# Altium footprint library Inductor_SMD.PcbLib: 587 footprints (part 29 of 37)
Each footprint in its own frame and in the unit in brackets; x right, y up, seen from the top. Pads: shape width x height; smd on the part's side, far side on the other; paste and mask are expansions set on the pad; w line width, h text height; cw(c..) or ccw(c..) is an arc to the next point about the centre after c.
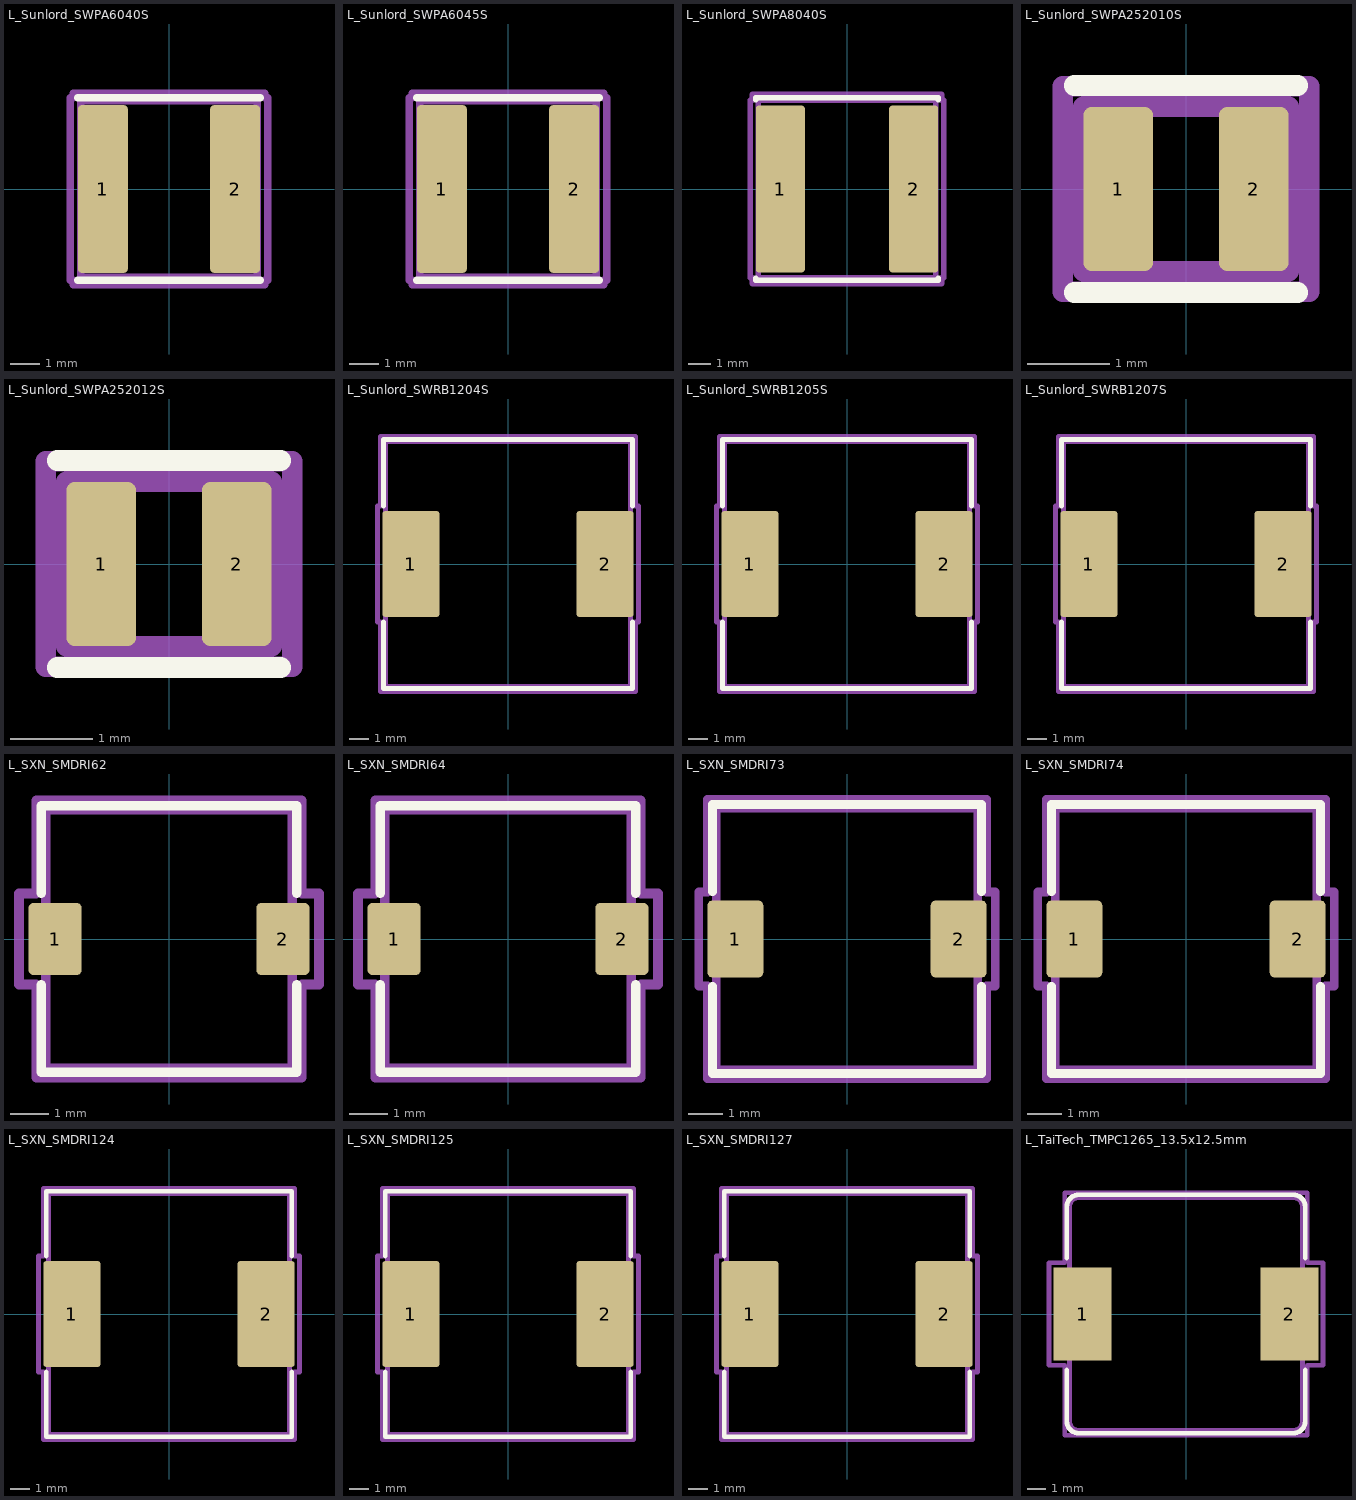
[diagram p28: the footprints below, top view; thin cyan lines are the x and y axes]

## L_Sunlord_SWPA6040S [mm] "L_Sunlord_SWPA6040S"
pads (2):
  rrect15% 1.7x5.7 smd: 1(-2.25,0) 2(2.25,0)
F.SilkS:
  lines w0.254: -3.11,-3.11 3.11,-3.11 ; -3.11,3.11 3.11,3.11
Top Assembly:
  lines w0.254: -3,-3 3,-3 3,3 -3,3 -3,-3
  text "'.Designator'" at -4.047,-0.84 h1
Top Courtyard:
  lines w0.254: -3.35,-3.1 -3.25,-3.1 -3.25,-3.25 3.25,-3.25 3.25,-3.1 3.35,-3.1 3.35,3.1 3.25,3.1 3.25,3.25 -3.25,3.25 -3.25,3.1 -3.35,3.1 -3.35,-3.1
Top Designator:
  text ".Designator" at -7.768,-0.508 h1.52
3D body "L_Sunlord_SWPA6040S.step": height 4, standoff 0, extent -3,-3 3,3

## L_Sunlord_SWPA6045S [mm] "L_Sunlord_SWPA6045S"
pads (2):
  rrect15% 1.7x5.7 smd: 1(-2.25,0) 2(2.25,0)
F.SilkS:
  lines w0.254: -3.11,-3.11 3.11,-3.11 ; -3.11,3.11 3.11,3.11
Top Assembly:
  lines w0.254: -3,-3 -3,3 3,3 3,-3 -3,-3
  text "'.Designator'" at -4.047,-0.84 h1
Top Courtyard:
  lines w0.254: -3.35,-3.1 -3.35,3.1 -3.25,3.1 -3.25,3.25 3.25,3.25 3.25,3.1 3.35,3.1 3.35,-3.1 3.25,-3.1 3.25,-3.25 -3.25,-3.25 -3.25,-3.1 -3.35,-3.1
Top Designator:
  text ".Designator" at -7.768,-0.508 h1.52
3D body "L_Sunlord_SWPA6045S.step": height 4.5, standoff 0, extent -3,-3 3,3

## L_Sunlord_SWPA8040S [mm] "L_Sunlord_SWPA8040S"
pads (2):
  rrect11% 2.2x7.5 smd: 1(-3,0) 2(3,0)
F.SilkS:
  lines w0.254: -4.11,-4.01 -4.11,-4.11 4.11,-4.11 4.11,-4.01 ; -4.11,4.01 -4.11,4.11 4.11,4.11 4.11,4.01
Top Assembly:
  lines w0.254: -4,-4 4,-4 4,4 -4,4 -4,-4
  text "'.Designator'" at -4.047,-0.84 h1
Top Courtyard:
  lines w0.254: -4.35,-4 -4.25,-4 -4.25,-4.25 4.25,-4.25 4.25,-4 4.35,-4 4.35,4 4.25,4 4.25,4.25 -4.25,4.25 -4.25,4 -4.35,4 -4.35,-4
Top Designator:
  text ".Designator" at -7.618,-0.508 h1.52
3D body "L_Sunlord_SWPA8040S.step": height 4.2, standoff 0, extent -4,-4 4,4

## L_Sunlord_SWPA252010S [mm] "L_Sunlord_SWPA252010S"
pads (2):
  rrect25% 0.85x2 smd: 1(-0.825,0) 2(0.825,0)
F.SilkS:
  lines w0.254: -1.36,-1.26 1.36,-1.26 ; -1.36,1.26 1.36,1.26
Top Assembly:
  lines w0.254: -1.25,-1 -1.25,1 1.25,1 1.25,-1 -1.25,-1
  text "'.Designator'" at -2.506,-0.518 h0.62
Top Courtyard:
  lines w0.254: -1.5,-1.25 -1.5,1.25 1.5,1.25 1.5,-1.25 -1.5,-1.25
Top Designator:
  text ".Designator" at -7.708,-0.508 h1.52
3D body "L_Sunlord_SWPA252010S.step": height 1, standoff 0, extent -1.25,-1 1.25,1

## L_Sunlord_SWPA252012S [mm] "L_Sunlord_SWPA252012S"
pads (2):
  rrect25% 0.85x2 smd: 1(-0.825,0) 2(0.825,0)
F.SilkS:
  lines w0.254: -1.36,-1.26 1.36,-1.26 ; -1.36,1.26 1.36,1.26
Top Assembly:
  lines w0.254: -1.25,-1 1.25,-1 1.25,1 -1.25,1 -1.25,-1
  text "'.Designator'" at -2.506,-0.518 h0.62
Top Courtyard:
  lines w0.254: -1.5,-1.25 1.5,-1.25 1.5,1.25 -1.5,1.25 -1.5,-1.25
Top Designator:
  text ".Designator" at -7.708,-0.508 h1.52
3D body "L_Sunlord_SWPA252012S.step": height 1.2, standoff 0, extent -1.25,-1 1.25,1

## L_Sunlord_SWRB1204S [mm] "L_Sunlord_SWRB1204S"
pads (2):
  rrect9% 2.9x5.4 smd: 1(-4.95,0) 2(4.95,0)
F.SilkS:
  lines w0.254: -6.36,-2.96 -6.36,-6.36 6.36,-6.36 6.36,-2.96 ; -6.36,2.96 -6.36,6.36 6.36,6.36 6.36,2.96
Top Assembly:
  lines w0.254: -6.25,-6.25 -6.25,6.25 6.25,6.25 6.25,-6.25 -6.25,-6.25
  text "'.Designator'" at -4.047,-0.84 h1
Top Courtyard:
  lines w0.254: -6.65,-2.95 -6.65,2.95 -6.5,2.95 -6.5,6.5 6.5,6.5 6.5,2.95 6.65,2.95 6.65,-2.95 6.5,-2.95 6.5,-6.5 -6.5,-6.5 -6.5,-2.95 -6.65,-2.95
Top Designator:
  text ".Designator" at -7.618,-0.508 h1.52
3D body "L_Sunlord_SWRB1204S.step": height 5, standoff 0, extent -6.25,-6.25 6.25,6.25

## L_Sunlord_SWRB1205S [mm] "L_Sunlord_SWRB1205S"
pads (2):
  rrect9% 2.9x5.4 smd: 1(-4.95,0) 2(4.95,0)
F.SilkS:
  lines w0.254: -6.36,-2.96 -6.36,-6.36 6.36,-6.36 6.36,-2.96 ; -6.36,2.96 -6.36,6.36 6.36,6.36 6.36,2.96
Top Assembly:
  lines w0.254: -6.25,-6.25 -6.25,6.25 6.25,6.25 6.25,-6.25 -6.25,-6.25
  text "'.Designator'" at -4.047,-0.84 h1
Top Courtyard:
  lines w0.254: -6.65,-2.95 -6.65,2.95 -6.5,2.95 -6.5,6.5 6.5,6.5 6.5,2.95 6.65,2.95 6.65,-2.95 6.5,-2.95 6.5,-6.5 -6.5,-6.5 -6.5,-2.95 -6.65,-2.95
Top Designator:
  text ".Designator" at -7.618,-0.508 h1.52
3D body "L_Sunlord_SWRB1205S.step": height 6, standoff 0, extent -6.25,-6.25 6.25,6.25

## L_Sunlord_SWRB1207S [mm] "L_Sunlord_SWRB1207S"
pads (2):
  rrect9% 2.9x5.4 smd: 1(-4.95,0) 2(4.95,0)
F.SilkS:
  lines w0.254: -6.36,-2.96 -6.36,-6.36 6.36,-6.36 6.36,-2.96 ; -6.36,2.96 -6.36,6.36 6.36,6.36 6.36,2.96
Top Assembly:
  lines w0.254: -6.25,-6.25 -6.25,6.25 6.25,6.25 6.25,-6.25 -6.25,-6.25
  text "'.Designator'" at -4.047,-0.84 h1
Top Courtyard:
  lines w0.254: -6.65,-2.95 -6.65,2.95 -6.5,2.95 -6.5,6.5 6.5,6.5 6.5,2.95 6.65,2.95 6.65,-2.95 6.5,-2.95 6.5,-6.5 -6.5,-6.5 -6.5,-2.95 -6.65,-2.95
Top Designator:
  text ".Designator" at -7.618,-0.508 h1.52
3D body "L_Sunlord_SWRB1207S.step": height 8, standoff 0, extent -6.25,-6.25 6.25,6.25

## L_SXN_SMDRI62 [mm] "L_SXN_SMDRI62"
pads (2):
  rrect18% 1.4x1.9 smd: 1(-3,0) 2(3,0)
F.SilkS:
  lines w0.254: -3.36,-1.21 -3.36,-3.51 3.36,-3.51 3.36,-1.21 ; -3.36,1.21 -3.36,3.51 3.36,3.51 3.36,1.21
Top Assembly:
  lines w0.254: -3.25,-3.4 -3.25,3.4 3.25,3.4 3.25,-3.4 -3.25,-3.4
  text "'.Designator'" at -4.047,-0.84 h1
Top Courtyard:
  lines w0.254: -3.95,-1.2 -3.95,1.2 -3.5,1.2 -3.5,3.65 3.5,3.65 3.5,1.2 3.95,1.2 3.95,-1.2 3.5,-1.2 3.5,-3.65 -3.5,-3.65 -3.5,-1.2 -3.95,-1.2
Top Designator:
  text ".Designator" at -7.677,-0.508 h1.52
3D body "L_SXN_SMDRI62.step": height 3, standoff 0, extent -3.26,-3.4 3.26,3.4

## L_SXN_SMDRI64 [mm] "L_SXN_SMDRI64"
pads (2):
  rrect18% 1.4x1.9 smd: 1(-3,0) 2(3,0)
F.SilkS:
  lines w0.254: -3.36,-1.21 -3.36,-3.51 3.36,-3.51 3.36,-1.21 ; -3.36,1.21 -3.36,3.51 3.36,3.51 3.36,1.21
Top Assembly:
  lines w0.254: -3.25,-3.4 -3.25,3.4 3.25,3.4 3.25,-3.4 -3.25,-3.4
  text "'.Designator'" at -4.047,-0.84 h1
Top Courtyard:
  lines w0.254: -3.95,-1.2 -3.95,1.2 -3.5,1.2 -3.5,3.65 3.5,3.65 3.5,1.2 3.95,1.2 3.95,-1.2 3.5,-1.2 3.5,-3.65 -3.5,-3.65 -3.5,-1.2 -3.95,-1.2
Top Designator:
  text ".Designator" at -7.677,-0.508 h1.52
3D body "L_SXN_SMDRI64.step": height 5, standoff 0, extent -3.26,-3.4 3.26,3.4

## L_SXN_SMDRI73 [mm] "L_SXN_SMDRI73"
pads (2):
  rrect16% 1.6x2.2 smd: 1(-3.2,0) 2(3.2,0)
F.SilkS:
  lines w0.254: -3.86,-1.36 -3.86,-3.86 3.86,-3.86 3.86,-1.36 ; -3.86,1.36 -3.86,3.86 3.86,3.86 3.86,1.36
Top Assembly:
  lines w0.254: -3.75,-3.75 -3.75,3.75 3.75,3.75 3.75,-3.75 -3.75,-3.75
  text "'.Designator'" at -4.047,-0.84 h1
Top Courtyard:
  lines w0.254: -4.25,-1.35 -4.25,1.35 -4,1.35 -4,4 4,4 4,1.35 4.25,1.35 4.25,-1.35 4,-1.35 4,-4 -4,-4 -4,-1.35 -4.25,-1.35
Top Designator:
  text ".Designator" at -7.618,-0.508 h1.52
3D body "L_SXN_SMDRI73.step": height 3.4, standoff 0, extent -3.76,-3.75 3.76,3.75

## L_SXN_SMDRI74 [mm] "L_SXN_SMDRI74"
pads (2):
  rrect16% 1.6x2.2 smd: 1(-3.2,0) 2(3.2,0)
F.SilkS:
  lines w0.254: -3.86,-1.36 -3.86,-3.86 3.86,-3.86 3.86,-1.36 ; -3.86,1.36 -3.86,3.86 3.86,3.86 3.86,1.36
Top Assembly:
  lines w0.254: -3.75,-3.75 -3.75,3.75 3.75,3.75 3.75,-3.75 -3.75,-3.75
  text "'.Designator'" at -4.047,-0.84 h1
Top Courtyard:
  lines w0.254: -4.25,-1.35 -4.25,1.35 -4,1.35 -4,4 4,4 4,1.35 4.25,1.35 4.25,-1.35 4,-1.35 4,-4 -4,-4 -4,-1.35 -4.25,-1.35
Top Designator:
  text ".Designator" at -7.618,-0.508 h1.52
3D body "L_SXN_SMDRI74.step": height 4.5, standoff 0, extent -3.76,-3.75 3.76,3.75

## L_SXN_SMDRI124 [mm] "L_SXN_SMDRI124"
pads (2):
  rrect9% 2.9x5.4 smd: 1(-4.95,0) 2(4.95,0)
F.SilkS:
  lines w0.254: -6.26,-2.96 -6.26,-6.26 6.26,-6.26 6.26,-2.96 ; -6.26,2.96 -6.26,6.26 6.26,6.26 6.26,2.96
Top Assembly:
  lines w0.254: -6.15,-6.15 6.15,-6.15 6.15,6.15 -6.15,6.15 -6.15,-6.15
  text "'.Designator'" at -4.047,-0.84 h1
Top Courtyard:
  lines w0.254: -6.65,-2.95 -6.4,-2.95 -6.4,-6.4 6.4,-6.4 6.4,-2.95 6.65,-2.95 6.65,2.95 6.4,2.95 6.4,6.4 -6.4,6.4 -6.4,2.95 -6.65,2.95 -6.65,-2.95
Top Designator:
  text ".Designator" at -7.618,-0.508 h1.52
3D body "L_SXN_SMDRI124.step": height 4.5, standoff 0, extent -6.16,-6.15 6.16,6.15

## L_SXN_SMDRI125 [mm] "L_SXN_SMDRI125"
pads (2):
  rrect9% 2.9x5.4 smd: 1(-4.95,0) 2(4.95,0)
F.SilkS:
  lines w0.254: -6.26,-2.96 -6.26,-6.26 6.26,-6.26 6.26,-2.96 ; -6.26,2.96 -6.26,6.26 6.26,6.26 6.26,2.96
Top Assembly:
  lines w0.254: -6.15,-6.15 -6.15,6.15 6.15,6.15 6.15,-6.15 -6.15,-6.15
  text "'.Designator'" at -4.047,-0.84 h1
Top Courtyard:
  lines w0.254: -6.65,-2.95 -6.65,2.95 -6.4,2.95 -6.4,6.4 6.4,6.4 6.4,2.95 6.65,2.95 6.65,-2.95 6.4,-2.95 6.4,-6.4 -6.4,-6.4 -6.4,-2.95 -6.65,-2.95
Top Designator:
  text ".Designator" at -7.618,-0.508 h1.52
3D body "L_SXN_SMDRI125.step": height 6, standoff 0, extent -6.16,-6.15 6.16,6.15

## L_SXN_SMDRI127 [mm] "L_SXN_SMDRI127"
pads (2):
  rrect9% 2.9x5.4 smd: 1(-4.95,0) 2(4.95,0)
F.SilkS:
  lines w0.254: -6.26,-2.96 -6.26,-6.26 6.26,-6.26 6.26,-2.96 ; -6.26,2.96 -6.26,6.26 6.26,6.26 6.26,2.96
Top Assembly:
  lines w0.254: -6.15,-6.15 -6.15,6.15 6.15,6.15 6.15,-6.15 -6.15,-6.15
  text "'.Designator'" at -4.047,-0.84 h1
Top Courtyard:
  lines w0.254: -6.65,-2.95 -6.65,2.95 -6.4,2.95 -6.4,6.4 6.4,6.4 6.4,2.95 6.65,2.95 6.65,-2.95 6.4,-2.95 6.4,-6.4 -6.4,-6.4 -6.4,-2.95 -6.65,-2.95
Top Designator:
  text ".Designator" at -7.618,-0.508 h1.52
3D body "L_SXN_SMDRI127.step": height 8, standoff 0, extent -6.16,-6.15 6.16,6.15

## L_TaiTech_TMPC1265_13.5x12.5mm [mm] "L_TaiTech_TMPC1265_13.5x12.5mm"
pads (2):
  rect 3.1x5 smd: 1(-5.55,0) 2(5.55,0)
F.SilkS:
  lines w0.254: -6.4,-3 -6.4,-5.75 ccw(c-5.75,-5.75) -5.75,-6.4 5.75,-6.4 ccw(c5.75,-5.75) 6.4,-5.75 6.4,-3 ; -6.4,3 -6.4,5.75 cw(c-5.75,5.75) -5.75,6.4 5.75,6.4 cw(c5.75,5.75) 6.4,5.75 6.4,3
Top Assembly:
  lines w0.254: -6.75,-2.35 -6.75,2.35 -6.25,2.35 -6.25,5.75 cw(c-5.75,5.75) -5.75,6.25 5.75,6.25 cw(c5.75,5.75) 6.25,5.75 6.25,2.35 6.75,2.35 6.75,-2.35 6.25,-2.35 6.25,-5.75 cw(c5.75,-5.75) 5.75,-6.25 -5.75,-6.25 cw(c-5.75,-5.75) -6.25,-5.75 -6.25,-2.35 -6.75,-2.35
  text "'.Designator'" at -4.047,-0.84 h1
Top Courtyard:
  lines w0.254: -7.35,-2.75 -7.35,2.75 -6.5,2.75 -6.5,6.5 6.5,6.5 6.5,2.75 7.35,2.75 7.35,-2.75 6.5,-2.75 6.5,-6.5 -6.5,-6.5 -6.5,-2.75 -7.35,-2.75
Top Designator:
  text ".Designator" at -7.618,-0.508 h1.52